# EAGLE library part POGO-2.54-6P (library PaxInstruments-Connectors)
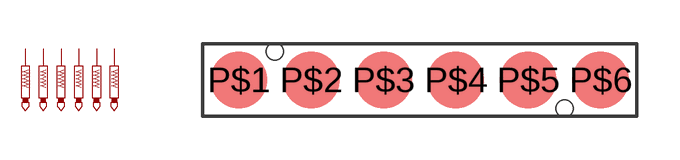
[diagram p0: symbol with the pads of POGO-2.54-6P; footprint POGO-2.54-6P]

Designator prefix -; gates G$1=POGO_PIN G$2=POGO_PIN G$3=POGO_PIN G$4=POGO_PIN G$5=POGO_PIN G$6=POGO_PIN

## POGO-2.54-6P  [POGO-2.54-6P]
P$1  G$1:TP  in
P$2  G$2:TP  in
P$3  G$3:TP  in
P$4  G$4:TP  in
P$5  G$5:TP  in
P$6  G$6:TP  in

## Footprint POGO-2.54-6P (pad centres in mm)
smd 2 x 2: P$1 0,0; P$2 2.54,0; P$3 5.08,0; P$4 7.62,0; P$5 10.16,0; P$6 12.7,0
hole 0.6 at 1.27,1
hole 0.6 at 11.43,-1